# Altium footprint library ST-Microelectronics Footprints.PcbLib: 320 footprints (part 14 of 20)
Each footprint in its own frame and in the unit in brackets; x right, y up, seen from the top. Pads: shape width x height; smd on the part's side, far side on the other; paste and mask are expansions set on the pad; w line width, h text height; cw(c..) or ccw(c..) is an arc to the next point about the centre after c.
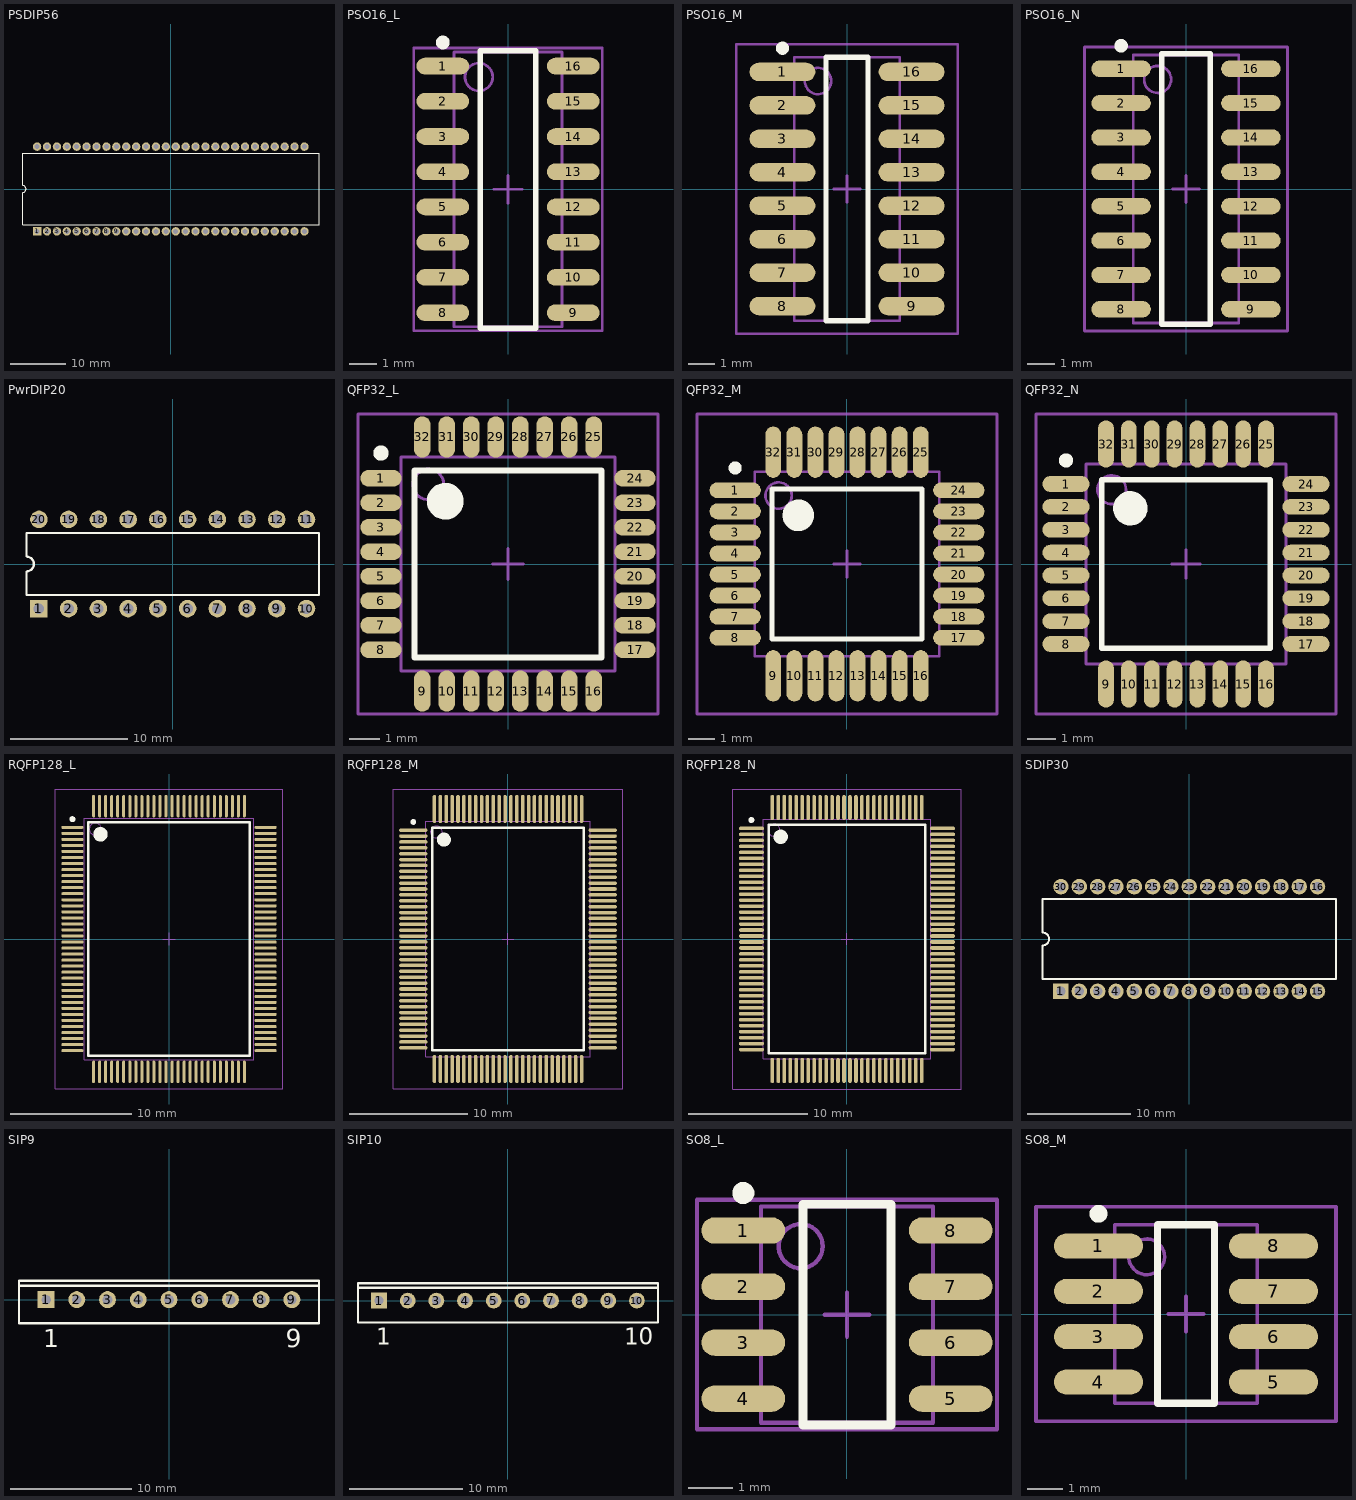
[diagram p13: the footprints below, top view; thin cyan lines are the x and y axes]

## PSDIP56 [mm] "DIP, Plastic Shrink; 56 Leads; Row Spacing 15.24 mm; Pitch 1.78 mm"
height 6.35
pads (56):
  rect 1.5x1.5 hole 0.9: 1(-24.03,-7.62)
  round 1.5 hole 0.9: 2(-22.25,-7.62) 3(-20.47,-7.62) 4(-18.69,-7.62) 5(-16.91,-7.62) 6(-15.13,-7.62) 7(-13.35,-7.62) 8(-11.57,-7.62) 9(-9.79,-7.62) 10(-8.01,-7.62) 11(-6.23,-7.62) 12(-4.45,-7.62) 13(-2.67,-7.62) 14(-0.89,-7.62) 15(0.89,-7.62) 16(2.67,-7.62) 17(4.45,-7.62) 18(6.23,-7.62) 19(8.01,-7.62) 20(9.79,-7.62) 21(11.57,-7.62) 22(13.35,-7.62) 23(15.13,-7.62) 24(16.91,-7.62) 25(18.69,-7.62) 26(20.47,-7.62) 27(22.25,-7.62) 28(24.03,-7.62) 29(24.03,7.62) 30(22.25,7.62) 31(20.47,7.62) 32(18.69,7.62) 33(16.91,7.62) 34(15.13,7.62) 35(13.35,7.62) 36(11.57,7.62) 37(9.79,7.62) 38(8.01,7.62) 39(6.23,7.62) 40(4.45,7.62) 41(2.67,7.62) 42(0.89,7.62) 43(-0.89,7.62) 44(-2.67,7.62) 45(-4.45,7.62) 46(-6.23,7.62) 47(-8.01,7.62) 48(-9.79,7.62) 49(-11.57,7.62) 50(-13.35,7.62) 51(-15.13,7.62) 52(-16.91,7.62) 53(-18.69,7.62) 54(-20.47,7.62) 55(-22.25,7.62) 56(-24.03,7.62)
Top Overlay:
  lines w0.2: -26.65,-6.45 -26.65,-0.635 ccw(c-26.65,0) -26.65,0.635 -26.65,6.45 26.65,6.45 26.65,-6.45 -26.65,-6.45

## PSO16_L [mm] "16-Pin Plastic Small Outline Integrated Circuit 1.27 mm Pitch, IPC High Density"
height 1.75
pads (16):
  oval 1.9x0.6 smd: 1(-2.35,4.445) 2(-2.35,3.175) 3(-2.35,1.905) 4(-2.35,0.635) 5(-2.35,-0.635) 6(-2.35,-1.905) 7(-2.35,-3.175) 8(-2.35,-4.445) 9(2.35,-4.445) 10(2.35,-3.175) 11(2.35,-1.905) 12(2.35,-0.635) 13(2.35,0.635) 14(2.35,1.905) 15(2.35,3.175) 16(2.35,4.445)
Top Overlay:
  circle w0.25: c-2.35,5.295 r0.125
  lines w0.2: -1,-5 1,-5 1,5 -1,5 -1,-5
Mechanical 13:
  circle w0.1: c-1.05,4.05 r0.5
  lines w0.1: -1.95,-4.95 1.95,-4.95 1.95,4.95 -1.95,4.95 -1.95,-4.95
Mechanical 15:
  lines w0.1: -0.5,0 0.5,0 ; 0,-0.5 0,0.5 ; -3.4,-5.1 3.4,-5.1 3.4,5.1 -3.4,5.1 -3.4,-5.1
3D body: height 1.75, standoff 0, extent -1.95,-4.95 1.95,4.95

## PSO16_M [mm] "16-Pin Plastic Small Outline Integrated Circuit 1.27 mm Pitch, IPC Low Density"
height 1.75
pads (16):
  oval 2.5x0.7 smd: 1(-2.45,4.445) 2(-2.45,3.175) 3(-2.45,1.905) 4(-2.45,0.635) 5(-2.45,-0.635) 6(-2.45,-1.905) 7(-2.45,-3.175) 8(-2.45,-4.445) 9(2.45,-4.445) 10(2.45,-3.175) 11(2.45,-1.905) 12(2.45,-0.635) 13(2.45,0.635) 14(2.45,1.905) 15(2.45,3.175) 16(2.45,4.445)
Top Overlay:
  circle w0.25: c-2.45,5.345 r0.125
  lines w0.2: -0.8,-5 0.8,-5 0.8,5 -0.8,5 -0.8,-5
Mechanical 13:
  circle w0.1: c-1.1,4.1 r0.5
  lines w0.1: -2,-5 2,-5 2,5 -2,5 -2,-5
Mechanical 15:
  lines w0.1: -0.5,0 0.5,0 ; 0,-0.5 0,0.5 ; -4.2,-5.5 4.2,-5.5 4.2,5.5 -4.2,5.5 -4.2,-5.5
3D body: height 1.75, standoff 0, extent -2,-5 2,5

## PSO16_N [mm] "16-Pin Plastic Small Outline Integrated Circuit 1.27 mm Pitch, IPC Medium Density"
height 1.75
pads (16):
  oval 2.2x0.6 smd: 1(-2.4,4.445) 2(-2.4,3.175) 3(-2.4,1.905) 4(-2.4,0.635) 5(-2.4,-0.635) 6(-2.4,-1.905) 7(-2.4,-3.175) 8(-2.4,-4.445) 9(2.4,-4.445) 10(2.4,-3.175) 11(2.4,-1.905) 12(2.4,-0.635) 13(2.4,0.635) 14(2.4,1.905) 15(2.4,3.175) 16(2.4,4.445)
Top Overlay:
  circle w0.25: c-2.4,5.295 r0.125
  lines w0.2: -0.9,-5 -0.9,5 0.9,5 0.9,-5 -0.9,-5
Mechanical 13:
  circle w0.1: c-1.05,4.05 r0.5
  lines w0.1: -1.95,-4.95 -1.95,4.95 1.95,4.95 1.95,-4.95 -1.95,-4.95
Mechanical 15:
  lines w0.1: -0.5,0 0.5,0 ; 0,-0.5 0,0.5 ; -3.75,-5.25 -3.75,5.25 3.75,5.25 3.75,-5.25 -3.75,-5.25
3D body: height 1.75, standoff 0, extent -1.95,-4.95 1.95,4.95

## PwrDIP20 [mm] "DIP; 20 Leads; Row Spacing 7.62 mm; Pitch 2.54 mm"
height 5.1
pads (20):
  rect 1.5x1.5 hole 0.9: 1(-11.43,-3.81)
  round 1.5 hole 0.9: 2(-8.89,-3.81) 3(-6.35,-3.81) 4(-3.81,-3.81) 5(-1.27,-3.81) 6(1.27,-3.81) 7(3.81,-3.81) 8(6.35,-3.81) 9(8.89,-3.81) 10(11.43,-3.81) 11(11.43,3.81) 12(8.89,3.81) 13(6.35,3.81) 14(3.81,3.81) 15(1.27,3.81) 16(-1.27,3.81) 17(-3.81,3.81) 18(-6.35,3.81) 19(-8.89,3.81) 20(-11.43,3.81)
Top Overlay:
  lines w0.2: -12.5,-2.65 12.5,-2.65 12.5,2.65 -12.5,2.65 -12.5,0.635 cw(c-12.5,0) -12.5,-0.635 -12.5,-2.65

## QFP32_L [mm] "32-Pin Quad Flat Pack 0.8 mm Pitch, IPC High Density"
height 1.85
pads (32):
  oval 1.35x0.55 smd: 1(-4.15,2.8) 2(-4.15,2) 3(-4.15,1.2) 4(-4.15,0.4) 5(-4.15,-0.4) 6(-4.15,-1.2) 7(-4.15,-2) 8(-4.15,-2.8) 17(4.15,-2.8) 18(4.15,-2) 19(4.15,-1.2) 20(4.15,-0.4) 21(4.15,0.4) 22(4.15,1.2) 23(4.15,2) 24(4.15,2.8)
  oval 0.55x1.35 smd: 9(-2.8,-4.15) 10(-2,-4.15) 11(-1.2,-4.15) 12(-0.4,-4.15) 13(0.4,-4.15) 14(1.2,-4.15) 15(2,-4.15) 16(2.8,-4.15) 25(2.8,4.15) 26(2,4.15) 27(1.2,4.15) 28(0.4,4.15) 29(-0.4,4.15) 30(-1.2,4.15) 31(-2,4.15) 32(-2.8,4.15)
Top Overlay:
  circle w0.25: c-4.15,3.625 r0.125
  circle w0.6: c-2.05,2.05 r0.3
  lines w0.2: -3.05,-3.05 -3.05,3.05 3.05,3.05 3.05,-3.05 -3.05,-3.05
Mechanical 13:
  circle w0.1: c-2.6,2.6 r0.5
  lines w0.1: -3.5,-3.5 -3.5,3.5 3.5,3.5 3.5,-3.5 -3.5,-3.5
Mechanical 15:
  lines w0.1: -0.5,0 0.5,0 ; 0,-0.5 0,0.5 ; -4.9,-4.9 -4.9,4.9 4.9,4.9 4.9,-4.9 -4.9,-4.9
3D body: height 1.85, standoff 0, extent -3.5,-3.5 3.5,3.5

## QFP32_M [mm] "32-Pin Quad Flat Pack 0.8 mm Pitch, IPC Low Density"
height 1.85
pads (32):
  oval 1.95x0.6 smd: 1(-4.25,2.8) 2(-4.25,2) 3(-4.25,1.2) 4(-4.25,0.4) 5(-4.25,-0.4) 6(-4.25,-1.2) 7(-4.25,-2) 8(-4.25,-2.8) 17(4.25,-2.8) 18(4.25,-2) 19(4.25,-1.2) 20(4.25,-0.4) 21(4.25,0.4) 22(4.25,1.2) 23(4.25,2) 24(4.25,2.8)
  oval 0.6x1.95 smd: 9(-2.8,-4.25) 10(-2,-4.25) 11(-1.2,-4.25) 12(-0.4,-4.25) 13(0.4,-4.25) 14(1.2,-4.25) 15(2,-4.25) 16(2.8,-4.25) 25(2.8,4.25) 26(2,4.25) 27(1.2,4.25) 28(0.4,4.25) 29(-0.4,4.25) 30(-1.2,4.25) 31(-2,4.25) 32(-2.8,4.25)
Top Overlay:
  circle w0.25: c-4.25,3.65 r0.125
  circle w0.6: c-1.85,1.85 r0.3
  lines w0.2: -2.85,-2.85 -2.85,2.85 2.85,2.85 2.85,-2.85 -2.85,-2.85
Mechanical 13:
  circle w0.1: c-2.6,2.6 r0.5
  lines w0.1: -3.5,-3.5 -3.5,3.5 3.5,3.5 3.5,-3.5 -3.5,-3.5
Mechanical 15:
  lines w0.1: -0.5,0 0.5,0 ; 0,-0.5 0,0.5 ; -5.7,-5.7 -5.7,5.7 5.7,5.7 5.7,-5.7 -5.7,-5.7
3D body: height 1.85, standoff 0, extent -3.5,-3.5 3.5,3.5

## QFP32_N [mm] "32-Pin Quad Flat Pack 0.8 mm Pitch, IPC Medium Density"
height 1.85
pads (32):
  oval 1.65x0.55 smd: 1(-4.2,2.8) 2(-4.2,2) 3(-4.2,1.2) 4(-4.2,0.4) 5(-4.2,-0.4) 6(-4.2,-1.2) 7(-4.2,-2) 8(-4.2,-2.8) 17(4.2,-2.8) 18(4.2,-2) 19(4.2,-1.2) 20(4.2,-0.4) 21(4.2,0.4) 22(4.2,1.2) 23(4.2,2) 24(4.2,2.8)
  oval 0.55x1.65 smd: 9(-2.8,-4.2) 10(-2,-4.2) 11(-1.2,-4.2) 12(-0.4,-4.2) 13(0.4,-4.2) 14(1.2,-4.2) 15(2,-4.2) 16(2.8,-4.2) 25(2.8,4.2) 26(2,4.2) 27(1.2,4.2) 28(0.4,4.2) 29(-0.4,4.2) 30(-1.2,4.2) 31(-2,4.2) 32(-2.8,4.2)
Top Overlay:
  circle w0.25: c-4.2,3.625 r0.125
  circle w0.6: c-1.95,1.95 r0.3
  lines w0.2: -2.95,-2.95 -2.95,2.95 2.95,2.95 2.95,-2.95 -2.95,-2.95
Mechanical 13:
  circle w0.1: c-2.6,2.6 r0.5
  lines w0.1: -3.5,-3.5 -3.5,3.5 3.5,3.5 3.5,-3.5 -3.5,-3.5
Mechanical 15:
  lines w0.1: -0.5,0 0.5,0 ; 0,-0.5 0,0.5 ; -5.25,-5.25 -5.25,5.25 5.25,5.25 5.25,-5.25 -5.25,-5.25
3D body: height 1.85, standoff 0, extent -3.5,-3.5 3.5,3.5

## RQFP128_L [mm] "128-Pin Plastic Shrink Quad Flat Pack Rectangular 0.5 mm Pitch, IPC High Density"
height 3.4
pads (128):
  oval 1.85x0.25 smd: 1(-8,9.25) 2(-8,8.75) 3(-8,8.25) 4(-8,7.75) 5(-8,7.25) 6(-8,6.75) 7(-8,6.25) 8(-8,5.75) 9(-8,5.25) 10(-8,4.75) 11(-8,4.25) 12(-8,3.75) 13(-8,3.25) 14(-8,2.75) 15(-8,2.25) 16(-8,1.75) 17(-8,1.25) 18(-8,0.75) 19(-8,0.25) 20(-8,-0.25) 21(-8,-0.75) 22(-8,-1.25) 23(-8,-1.75) 24(-8,-2.25) 25(-8,-2.75) 26(-8,-3.25) 27(-8,-3.75) 28(-8,-4.25) 29(-8,-4.75) 30(-8,-5.25) 31(-8,-5.75) 32(-8,-6.25) 33(-8,-6.75) 34(-8,-7.25) 35(-8,-7.75) 36(-8,-8.25) 37(-8,-8.75) 38(-8,-9.25) 65(8,-9.25) 66(8,-8.75) 67(8,-8.25) 68(8,-7.75) 69(8,-7.25) 70(8,-6.75) 71(8,-6.25) 72(8,-5.75) 73(8,-5.25) 74(8,-4.75) 75(8,-4.25) 76(8,-3.75) 77(8,-3.25) 78(8,-2.75) 79(8,-2.25) 80(8,-1.75) 81(8,-1.25) 82(8,-0.75) 83(8,-0.25) 84(8,0.25) 85(8,0.75) 86(8,1.25) 87(8,1.75) 88(8,2.25) 89(8,2.75) 90(8,3.25) 91(8,3.75) 92(8,4.25) 93(8,4.75) 94(8,5.25) 95(8,5.75) 96(8,6.25) 97(8,6.75) 98(8,7.25) 99(8,7.75) 100(8,8.25) 101(8,8.75) 102(8,9.25)
  oval 0.25x1.85 smd: 39(-6.25,-11) 40(-5.75,-11) 41(-5.25,-11) 42(-4.75,-11) 43(-4.25,-11) 44(-3.75,-11) 45(-3.25,-11) 46(-2.75,-11) 47(-2.25,-11) 48(-1.75,-11) 49(-1.25,-11) 50(-0.75,-11) 51(-0.25,-11) 52(0.25,-11) 53(0.75,-11) 54(1.25,-11) 55(1.75,-11) 56(2.25,-11) 57(2.75,-11) 58(3.25,-11) 59(3.75,-11) 60(4.25,-11) 61(4.75,-11) 62(5.25,-11) 63(5.75,-11) 64(6.25,-11) 103(6.25,11) 104(5.75,11) 105(5.25,11) 106(4.75,11) 107(4.25,11) 108(3.75,11) 109(3.25,11) 110(2.75,11) 111(2.25,11) 112(1.75,11) 113(1.25,11) 114(0.75,11) 115(0.25,11) 116(-0.25,11) 117(-0.75,11) 118(-1.25,11) 119(-1.75,11) 120(-2.25,11) 121(-2.75,11) 122(-3.25,11) 123(-3.75,11) 124(-4.25,11) 125(-4.75,11) 126(-5.25,11) 127(-5.75,11) 128(-6.25,11)
Top Overlay:
  circle w0.6: c-5.675,8.675 r0.3
  circle w0.25: c-8,9.925 r0.125
  lines w0.2: -6.675,-9.675 6.675,-9.675 6.675,9.675 -6.675,9.675 -6.675,-9.675
Mechanical 13:
  circle w0.1: c-6.1,9.1 r0.5
  lines w0.1: -7,-10 7,-10 7,10 -7,10 -7,-10
Mechanical 15:
  lines w0.1: -0.5,0 0.5,0 ; 0,-0.5 0,0.5 ; -9.425,-12.425 9.425,-12.425 9.425,12.425 -9.425,12.425 -9.425,-12.425
3D body: height 3.4, standoff 0, extent -7,-10 7,10

## RQFP128_M [mm] "128-Pin Plastic Shrink Quad Flat Pack Rectangular 0.5 mm Pitch, IPC Low Density"
height 3.4
pads (128):
  oval 2.4x0.3 smd: 1(-8.05,9.25) 2(-8.05,8.75) 3(-8.05,8.25) 4(-8.05,7.75) 5(-8.05,7.25) 6(-8.05,6.75) 7(-8.05,6.25) 8(-8.05,5.75) 9(-8.05,5.25) 10(-8.05,4.75) 11(-8.05,4.25) 12(-8.05,3.75) 13(-8.05,3.25) 14(-8.05,2.75) 15(-8.05,2.25) 16(-8.05,1.75) 17(-8.05,1.25) 18(-8.05,0.75) 19(-8.05,0.25) 20(-8.05,-0.25) 21(-8.05,-0.75) 22(-8.05,-1.25) 23(-8.05,-1.75) 24(-8.05,-2.25) 25(-8.05,-2.75) 26(-8.05,-3.25) 27(-8.05,-3.75) 28(-8.05,-4.25) 29(-8.05,-4.75) 30(-8.05,-5.25) 31(-8.05,-5.75) 32(-8.05,-6.25) 33(-8.05,-6.75) 34(-8.05,-7.25) 35(-8.05,-7.75) 36(-8.05,-8.25) 37(-8.05,-8.75) 38(-8.05,-9.25) 65(8.05,-9.25) 66(8.05,-8.75) 67(8.05,-8.25) 68(8.05,-7.75) 69(8.05,-7.25) 70(8.05,-6.75) 71(8.05,-6.25) 72(8.05,-5.75) 73(8.05,-5.25) 74(8.05,-4.75) 75(8.05,-4.25) 76(8.05,-3.75) 77(8.05,-3.25) 78(8.05,-2.75) 79(8.05,-2.25) 80(8.05,-1.75) 81(8.05,-1.25) 82(8.05,-0.75) 83(8.05,-0.25) 84(8.05,0.25) 85(8.05,0.75) 86(8.05,1.25) 87(8.05,1.75) 88(8.05,2.25) 89(8.05,2.75) 90(8.05,3.25) 91(8.05,3.75) 92(8.05,4.25) 93(8.05,4.75) 94(8.05,5.25) 95(8.05,5.75) 96(8.05,6.25) 97(8.05,6.75) 98(8.05,7.25) 99(8.05,7.75) 100(8.05,8.25) 101(8.05,8.75) 102(8.05,9.25)
  oval 0.3x2.4 smd: 39(-6.25,-11.05) 40(-5.75,-11.05) 41(-5.25,-11.05) 42(-4.75,-11.05) 43(-4.25,-11.05) 44(-3.75,-11.05) 45(-3.25,-11.05) 46(-2.75,-11.05) 47(-2.25,-11.05) 48(-1.75,-11.05) 49(-1.25,-11.05) 50(-0.75,-11.05) 51(-0.25,-11.05) 52(0.25,-11.05) 53(0.75,-11.05) 54(1.25,-11.05) 55(1.75,-11.05) 56(2.25,-11.05) 57(2.75,-11.05) 58(3.25,-11.05) 59(3.75,-11.05) 60(4.25,-11.05) 61(4.75,-11.05) 62(5.25,-11.05) 63(5.75,-11.05) 64(6.25,-11.05) 103(6.25,11.05) 104(5.75,11.05) 105(5.25,11.05) 106(4.75,11.05) 107(4.25,11.05) 108(3.75,11.05) 109(3.25,11.05) 110(2.75,11.05) 111(2.25,11.05) 112(1.75,11.05) 113(1.25,11.05) 114(0.75,11.05) 115(0.25,11.05) 116(-0.25,11.05) 117(-0.75,11.05) 118(-1.25,11.05) 119(-1.75,11.05) 120(-2.25,11.05) 121(-2.75,11.05) 122(-3.25,11.05) 123(-3.75,11.05) 124(-4.25,11.05) 125(-4.75,11.05) 126(-5.25,11.05) 127(-5.75,11.05) 128(-6.25,11.05)
Top Overlay:
  circle w0.6: c-5.45,8.45 r0.3
  circle w0.25: c-8.05,9.95 r0.125
  lines w0.2: -6.45,-9.45 6.45,-9.45 6.45,9.45 -6.45,9.45 -6.45,-9.45
Mechanical 13:
  circle w0.1: c-6.1,9.1 r0.5
  lines w0.1: -7,-10 7,-10 7,10 -7,10 -7,-10
Mechanical 15:
  lines w0.1: -0.5,0 0.5,0 ; 0,-0.5 0,0.5 ; -9.75,-12.75 9.75,-12.75 9.75,12.75 -9.75,12.75 -9.75,-12.75
3D body: height 3.4, standoff 0, extent -7,-10 7,10

## RQFP128_N [mm] "128-Pin Plastic Shrink Quad Flat Pack Rectangular 0.5 mm Pitch, IPC Medium Density"
height 3.4
pads (128):
  oval 2.1x0.3 smd: 1(-8,9.25) 2(-8,8.75) 3(-8,8.25) 4(-8,7.75) 5(-8,7.25) 6(-8,6.75) 7(-8,6.25) 8(-8,5.75) 9(-8,5.25) 10(-8,4.75) 11(-8,4.25) 12(-8,3.75) 13(-8,3.25) 14(-8,2.75) 15(-8,2.25) 16(-8,1.75) 17(-8,1.25) 18(-8,0.75) 19(-8,0.25) 20(-8,-0.25) 21(-8,-0.75) 22(-8,-1.25) 23(-8,-1.75) 24(-8,-2.25) 25(-8,-2.75) 26(-8,-3.25) 27(-8,-3.75) 28(-8,-4.25) 29(-8,-4.75) 30(-8,-5.25) 31(-8,-5.75) 32(-8,-6.25) 33(-8,-6.75) 34(-8,-7.25) 35(-8,-7.75) 36(-8,-8.25) 37(-8,-8.75) 38(-8,-9.25) 65(8,-9.25) 66(8,-8.75) 67(8,-8.25) 68(8,-7.75) 69(8,-7.25) 70(8,-6.75) 71(8,-6.25) 72(8,-5.75) 73(8,-5.25) 74(8,-4.75) 75(8,-4.25) 76(8,-3.75) 77(8,-3.25) 78(8,-2.75) 79(8,-2.25) 80(8,-1.75) 81(8,-1.25) 82(8,-0.75) 83(8,-0.25) 84(8,0.25) 85(8,0.75) 86(8,1.25) 87(8,1.75) 88(8,2.25) 89(8,2.75) 90(8,3.25) 91(8,3.75) 92(8,4.25) 93(8,4.75) 94(8,5.25) 95(8,5.75) 96(8,6.25) 97(8,6.75) 98(8,7.25) 99(8,7.75) 100(8,8.25) 101(8,8.75) 102(8,9.25)
  oval 0.3x2.1 smd: 39(-6.25,-11) 40(-5.75,-11) 41(-5.25,-11) 42(-4.75,-11) 43(-4.25,-11) 44(-3.75,-11) 45(-3.25,-11) 46(-2.75,-11) 47(-2.25,-11) 48(-1.75,-11) 49(-1.25,-11) 50(-0.75,-11) 51(-0.25,-11) 52(0.25,-11) 53(0.75,-11) 54(1.25,-11) 55(1.75,-11) 56(2.25,-11) 57(2.75,-11) 58(3.25,-11) 59(3.75,-11) 60(4.25,-11) 61(4.75,-11) 62(5.25,-11) 63(5.75,-11) 64(6.25,-11) 103(6.25,11) 104(5.75,11) 105(5.25,11) 106(4.75,11) 107(4.25,11) 108(3.75,11) 109(3.25,11) 110(2.75,11) 111(2.25,11) 112(1.75,11) 113(1.25,11) 114(0.75,11) 115(0.25,11) 116(-0.25,11) 117(-0.75,11) 118(-1.25,11) 119(-1.75,11) 120(-2.25,11) 121(-2.75,11) 122(-3.25,11) 123(-3.75,11) 124(-4.25,11) 125(-4.75,11) 126(-5.25,11) 127(-5.75,11) 128(-6.25,11)
Top Overlay:
  circle w0.6: c-5.55,8.55 r0.3
  circle w0.25: c-8,9.95 r0.125
  lines w0.2: -6.55,-9.55 6.55,-9.55 6.55,9.55 -6.55,9.55 -6.55,-9.55
Mechanical 13:
  circle w0.1: c-6.1,9.1 r0.5
  lines w0.1: -7,-10 7,-10 7,10 -7,10 -7,-10
Mechanical 15:
  lines w0.1: -0.5,0 0.5,0 ; 0,-0.5 0,0.5 ; -9.55,-12.55 9.55,-12.55 9.55,12.55 -9.55,12.55 -9.55,-12.55
3D body: height 3.4, standoff 0, extent -7,-10 7,10

## SDIP30 [mm] "DIP; 30 Leads; Row Spacing 10.16 mm; Pitch 1.778 mm"
height 5.08
pads (30):
  rect 1.5x1.5 hole 0.9: 1(-12.46,-5.08)
  round 1.5 hole 0.9: 2(-10.68,-5.08) 3(-8.9,-5.08) 4(-7.12,-5.08) 5(-5.34,-5.08) 6(-3.56,-5.08) 7(-1.78,-5.08) 8(0,-5.08) 9(1.78,-5.08) 10(3.56,-5.08) 11(5.34,-5.08) 12(7.12,-5.08) 13(8.9,-5.08) 14(10.68,-5.08) 15(12.46,-5.08) 16(12.46,5.08) 17(10.68,5.08) 18(8.9,5.08) 19(7.12,5.08) 20(5.34,5.08) 21(3.56,5.08) 22(1.78,5.08) 23(0,5.08) 24(-1.78,5.08) 25(-3.56,5.08) 26(-5.34,5.08) 27(-7.12,5.08) 28(-8.9,5.08) 29(-10.68,5.08) 30(-12.46,5.08)
Top Overlay:
  lines w0.2: -14.25,-3.9 14.25,-3.9 14.25,3.9 -14.25,3.9 -14.25,0.635 cw(c-14.25,0) -14.25,-0.635 -14.25,-3.9

## SIP9 [mm] "TO, Thru-Hole, Vertical, Heatsink Mounted; 9 In-Line Leads; Pitch 2.54 mm"
height 18.1
pads (9):
  rect 1.4x1.4 hole 0.8: 1(-10.16,0)
  round 1.4 hole 0.8: 2(-7.62,0) 3(-5.08,0) 4(-2.54,0) 5(0,0) 6(2.54,0) 7(5.08,0) 8(7.62,0) 9(10.16,0)
Top Overlay:
  lines w0.2: -12.4,1.15 12.4,1.15 ; -12.4,-1.95 12.4,-1.95 12.4,1.55 -12.4,1.55 -12.4,-1.95
  text "1" at -10.41,-3.925 h1.5
  text "9" at 9.66,-3.925 h1.5

## SIP10 [mm] "TO, Thru-Hole, Vertical, Heatsink Mounted; 10 In-Line Leads; Pitch 2.54 mm"
height 18.1
pads (10):
  rect 1.4x1.4 hole 0.8: 1(-11.43,0)
  round 1.4 hole 0.8: 2(-8.89,0) 3(-6.35,0) 4(-3.81,0) 5(-1.27,0) 6(1.27,0) 7(3.81,0) 8(6.35,0) 9(8.89,0) 10(11.43,0)
Top Overlay:
  lines w0.2: -13.3,1.15 13.3,1.15 ; -13.3,-1.95 -13.3,1.55 13.3,1.55 13.3,-1.95 -13.3,-1.95
  text "10" at 10.305,-3.925 h1.5
  text "1" at -11.68,-3.925 h1.5

## SO8_L [mm] "8-Pin Small Outline Integrated Circuit 1.27 mm Pitch, IPC High Density"
height 1.75
pads (8):
  oval 1.9x0.6 smd: 1(-2.35,1.905) 2(-2.35,0.635) 3(-2.35,-0.635) 4(-2.35,-1.905) 5(2.35,-1.905) 6(2.35,-0.635) 7(2.35,0.635) 8(2.35,1.905)
Top Overlay:
  circle w0.25: c-2.35,2.755 r0.125
  lines w0.2: -1,-2.5 1,-2.5 1,2.5 -1,2.5 -1,-2.5
Mechanical 13:
  circle w0.1: c-1.05,1.55 r0.5
  lines w0.1: -1.95,-2.45 1.95,-2.45 1.95,2.45 -1.95,2.45 -1.95,-2.45
Mechanical 15:
  lines w0.1: -0.5,0 0.5,0 ; 0,-0.5 0,0.5 ; -3.4,-2.6 3.4,-2.6 3.4,2.6 -3.4,2.6 -3.4,-2.6
3D body: height 1.75, standoff 0, extent -1.95,-2.45 1.95,2.45

## SO8_M [mm] "8-Pin Small Outline Integrated Circuit 1.27 mm Pitch, IPC Low Density"
height 1.75
pads (8):
  oval 2.5x0.7 smd: 1(-2.45,1.905) 2(-2.45,0.635) 3(-2.45,-0.635) 4(-2.45,-1.905) 5(2.45,-1.905) 6(2.45,-0.635) 7(2.45,0.635) 8(2.45,1.905)
Top Overlay:
  circle w0.25: c-2.45,2.805 r0.125
  lines w0.2: -0.8,-2.5 -0.8,2.5 0.8,2.5 0.8,-2.5 -0.8,-2.5
Mechanical 13:
  circle w0.1: c-1.1,1.6 r0.5
  lines w0.1: -2,-2.5 -2,2.5 2,2.5 2,-2.5 -2,-2.5
Mechanical 15:
  lines w0.1: -0.5,0 0.5,0 ; 0,-0.5 0,0.5 ; -4.2,-3 -4.2,3 4.2,3 4.2,-3 -4.2,-3
3D body: height 1.75, standoff 0, extent -2,-2.5 2,2.5